# Altium schematic symbol library FTDI.SchLib: 1 symbol
Pins are listed as number, name and electrical type; pins without a type are passive.

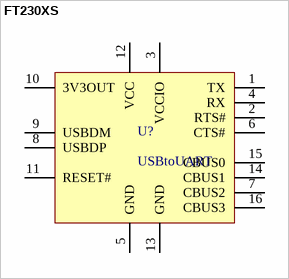
[diagram p0: symbol FT230XS]

## FT230XS
designator U?, comment USBtoUART
FTDI USB Serial Converter
footprint SSOP16
pins: 1 TX, 2 RTS#, 3 VCCIO, 4 RX, 5 GND, 6 CTS#, 7 CBUS2, 8 USBDP, 9 USBDM, 10 3V3OUT, 11 RESET#, 12 VCC, 13 GND, 14 CBUS1, 15 CBUS0, 16 CBUS3